# Altium integrated library library.IntLib: 35 symbols
Pins are listed as number, name and electrical type; pins without a type are passive.

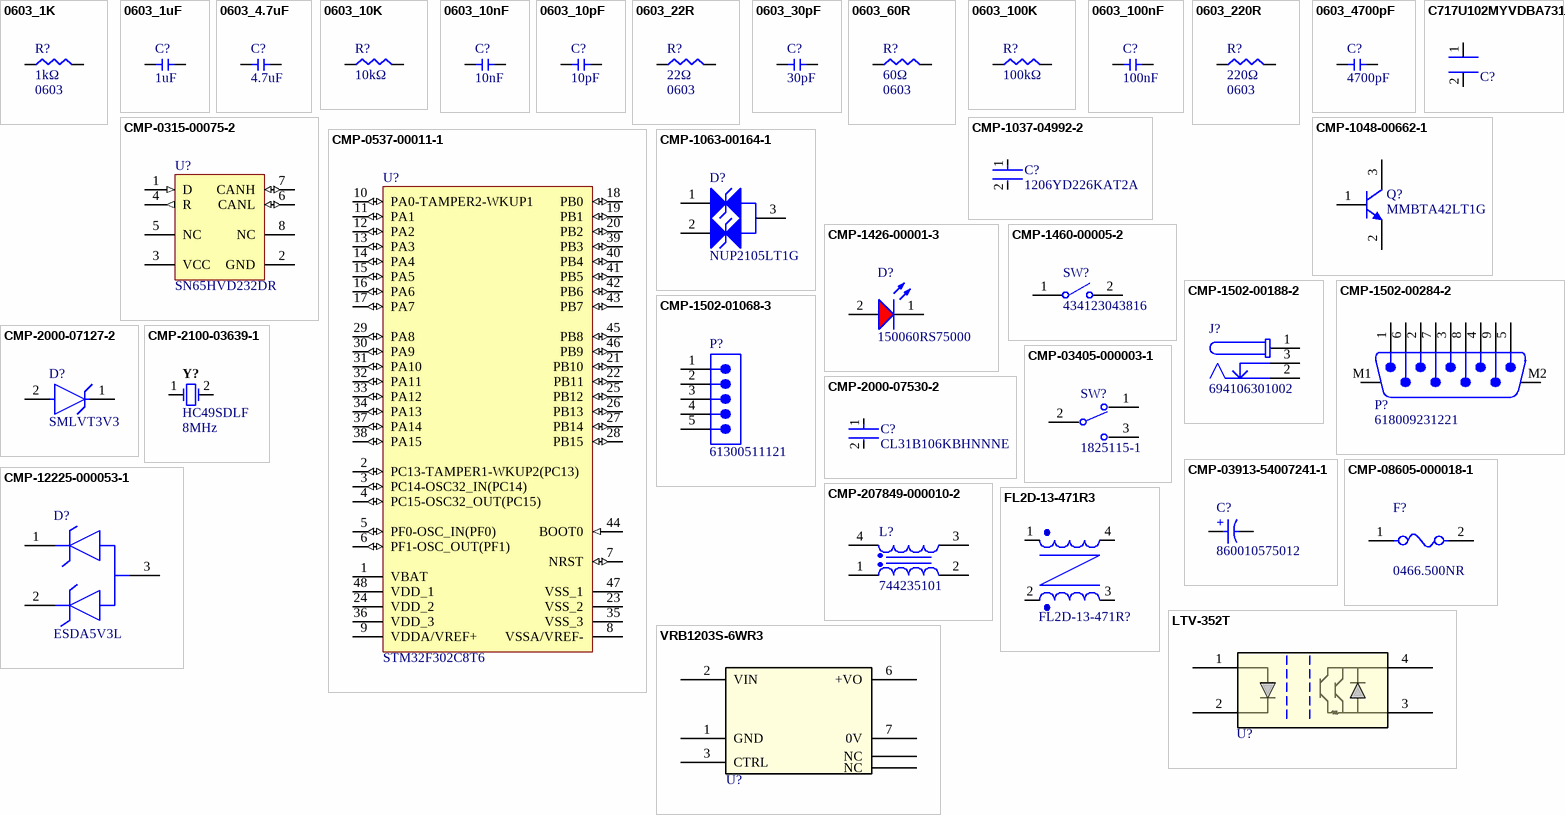
[diagram p0: symbols 0603_1K to VRB1203S-6WR3]

## 0603_1K
designator R?  value 1kΩ  Package: 0603  (hidden comment: 0603_1K)
Power: W
footprint 0603-smd
footprint 0603-smd
pins: 1, 2

## 0603_1uF
designator C?  value 1uF  (hidden comment: 0603_1uF)
Volt: V; Package: 0603
footprint 0603-smd
footprint 0603_cap
pins: 1, 2

## 0603_4.7uF
designator C?  value 4.7uF  (hidden comment: 0603_4.7uF)
Volt: 25V; Package: 0603
footprint 0603-smd
footprint 0603_cap
pins: 1, 2

## 0603_10K
designator R?  value 10kΩ  (hidden comment: 0603_10K)
Power: W; Package: 0603
footprint 0603-smd
footprint 0603-smd
pins: 1, 2

## 0603_10nF
designator C?  value 10nF  (hidden comment: 0603_10nF)
Volt: V; Package: 0603
footprint 0603-smd
footprint 0603_cap
pins: 1, 2

## 0603_10pF
designator C?  value 10pF  (hidden comment: 0603_10pF)
Volt: V; Package: 0603
footprint 0603-smd
footprint 0603_cap
pins: 1, 2

## 0603_22R
designator R?  value 22Ω  Package: 0603  (hidden comment: 0603_22R)
Power: W
footprint 0603-smd
footprint 0603-smd
pins: 1, 2

## 0603_30pF
designator C?  value 30pF  (hidden comment: 0603_30pF)
Volt: V; Package: 0603
footprint 0603-smd
footprint 0603_cap
pins: 1, 2

## 0603_60R
designator R?  value 60Ω  Package: 0603  (hidden comment: 0603_60R)
Power: W
footprint 0603-smd
footprint 0603-smd
pins: 1, 2

## 0603_100K
designator R?  value 100kΩ  (hidden comment: 0603_100K)
Power: W; Package: 0603
footprint 0603-smd
footprint 0603-smd
pins: 1, 2

## 0603_100nF
designator C?  value 100nF  (hidden comment: 0603_100nF)
Volt: V; Package: 0603
footprint 0603-smd
footprint 0603_cap
pins: 1, 2

## 0603_220R
designator R?  value 220Ω  Package: 0603  (hidden comment: 0603_220R)
Power: W
footprint 0603-smd
footprint 0603-smd
pins: 1, 2

## 0603_4700pF
designator C?  value 4700pF  (hidden comment: 0603_4700pF)
Volt: V; Package: 0603
footprint 0603-smd
footprint 0603_cap
pins: 1, 2

## C717U102MYVDBA7317
designator C?, comment 1nf 400V AC 7.5mm Lead  (value not drawn)
Suppression Cap, 1000Pf, Class X1/ Y2 Rohs Compliant: Yes |Kemet C717U102MYVDBA7317; Manufacturer: KEMET; Supplier 1: Mouser; Manufacturer Part Number: C717U102MYVDBA7317; RoHS: Yes; Category: Ceramic Capacitors; Stock 1: 1838; Pricing 1: 1=0,72, 10=0,387, 50=0,387, 100=0,25, 1000=0,223, 10000=0,18 (USD); RoHS Compliant: Yes; Supplier Part Number 1: 80-C717U102MYVDB7317; ComponentLink1Description: Datasheet; ComponentLink1URL: https://content.kemet.com/datasheets/KEM_C1103_KJY.pdf
footprint PCBComponent_1
pins: 1, 2

## CMP-0315-00075-2
designator U?, comment SN65HVD232DR
3.3 V Can Transceiver, 17 mA, -40 to 85 degC, 8-pin SOIC (D), Green (RoHS & no Sb/Br); Manufacturer: Texas Instruments; Supply Voltage(s)(V): 3.3; Receivers Per Package: 1; ICC(Max)(mA): 17; Rating: Catalog; Transient Pulse Protection(V): -25 to 25; Mounting Technology: Surface Mount; PartNumber: SN65HVD232DR; Code_JEDEC: MS-012AA; Eco-Plan: Green (RoHS & no Sb/Br); Isolated: No; SubFamily: CAN; Footprint: SN65HVD232; Drivers Per Package: 1; ComponentLink1URL: http://www.ti.com/general/docs/lit/getliterature.tsp?genericPartNumber=SN65HVD232&fileType=pdf; ComponentLink1Description: Datasheet; PackageDescription: 8-Pin Plastic Small Outline Integrated Circuit, 4.9 x 3.9 mm, Pitch 1.27 mm Pitch; PackageReference: D0008A; DatasheetVersion: SLOS346K; PackageVersion: revM, Jun-2011; Manufacturer Part Number: SN65HVD232DR
footprint D0008A_M (SOIC, 8-Leads, Body 5x4mm, Pitch 1.27mm, IPC Low Density)
footprint D0008A_L (SOIC, 8-Leads, Body 5x4mm, Pitch 1.27mm, IPC High Density)
footprint D0008A_N (SOIC, 8-Leads, Body 5x4mm, Pitch 1.27mm, IPC Medium Density)
pins: 1 D (in) "Driver input", 2 GND (power) "Ground", 3 VCC (power) "Supply voltage", 4 R (out) "Receiver output", 5 NC "No connection", 6 CANL (io) "Low bus output", 7 CANH (io) "High bus outpu", 8 NC "No connection"

## CMP-0537-00011-1
designator U?, comment STM32F302C8T6
ARM Cortex-M4 32-bit MCU, 64 KB Flash, 16 KB Internal RAM, 37 I/Os, 48-Pin LQFP, -40 to 85 degC, Tray; Manufacturer: STMicroelectronics; Operating Frequency(F) (Processor speed) (MHz): 72; Internal RAM Size (kB): 16; D/A Converter: 1; FLASH Size (Prog) (kB): 64; I/Os (High Current): 37; Supply Voltage(Vcc) min (V): 2; ComponentLink2Description: Datasheet; Package Reference: LQFP48; Package Description: 48-Pin Low Profile Quad Flat Package, Body 7 x 7 mm, Pitch 0.5 mm; Packing: Tray; ComponentLink1URL: http://www.st.com/; ComponentLink1Description: Manufacturer URL; DatasheetVersion: Rev. 5; Core: ARM Cortex-M4; Mounting Technology: Surface Mount; ComponentLink2URL: http://www.st.com/st-web-ui/static/active/en/resource/technical/document/datasheet/DM00093333.pdf; Manufacturer Part Number: STM32F302C8T6
footprint STM-LQFP48_M (QFP, 48-Leads, Body 7x7mm, Pitch 0.5mm, IPC Low Density)
footprint STM-LQFP48_N (QFP, 48-Leads, Body 7x7mm, Pitch 0.5mm, IPC Medium Density)
footprint STM-LQFP48_L (QFP, 48-Leads, Body 7x7mm, Pitch 0.5mm, IPC High Density)
pins: 1 VBAT (power) "Backup power supply", 2 PC13-TAMPER1-WKUP2(PC13) (io) "PC13-TAMPER1-WKUP2(PC13)/TIM1_CH1N/WKUP2,RTC_TAMP1,RTC_TS,RTC_OUT", 3 PC14-OSC32_IN(PC14) (io) "PC14/OSC32_IN", 4 PC15-OSC32_OUT(PC15) (io) "PC15/OSC32_OUT", 5 PF0-OSC_IN(PF0) (io) "PF0/I2C2_SDA,SPI2_NSS/I2S2_WS,TIM1_CH3N/OSC_IN", 6 PF1-OSC_OUT(PF1) (io) "PF1/I2C2_SCL,SPI2_SCK/I2S2_CK/OSC_OUT", 7 NRST (io) "Device reset input/internal reset output (active low)", 8 VSSA/VREF- (power) "Analog ground/Negative reference voltage", 9 VDDA/VREF+ (power) "Analog power supply/Positive reference voltage", 10 PA0-TAMPER2-WKUP1 (io) "PA0-TAMPER2-WKUP1/TIM2_CH1/TIM2_ETR,TSC_G1_IO1,USART2_CTS,EVENTOUT/ADC1_IN1,RTC_TAMP2,WKUP1", 11 PA1 (io) "PA1/RTC_REFIN,TIM2_CH2,TSC_G1_IO2,USART2_RTS_DE,TIM15_CH1N,EVENTOUT/ADC1_IN2", 12 PA2 (io) "PA2/TIM2_CH3,TSC_G1_IO3,USART2_TX,COMP2_OUT,TIM15_CH1,EVENTOUT/ADC1_IN3,COMP2_INM", 13 PA3 (io) "PA3/TIM2_CH4,TSC_G1_IO4,USART2_RX,TIM15_CH2,EVENTOUT/ADC1_IN4", 14 PA4 (io) "PA4/TSC_G2_IO1,SPI3_NSS/I2S3_WS,USART2_CK,EVENTOUT/ADC1_IN5,DAC1_OUT1,COMP2_INM,COMP4_INM,COMP6_INM", 15 PA5 (io) "PA5/TIM2_CH1/TIM2_ETR,TSC_G2_IO2,EVENTOUT/OPAMP2_VINM", 16 PA6 (io) "PA6/TIM16_CH1,TSC_G2_IO3,TIM1_BKIN,EVENTOUT/ADC1_IN10,OPAMP2_VOUT", 17 PA7 (io) "PA7/TIM17_CH1,TSC_G2_IO4,TIM1_CH1N,EVENTOUT/ADC1_IN15,COMP2_INP,OPAMP2_VINP", 18 PB0 (io) "PB0/TSC_G3_IO2,TIM1_CH2N,EVENTOUT/ADC1_IN11,COMP4_INP,OPAMP2_VINP", 19 PB1 (io) "PB1/TSC_G3_IO3,TIM1_CH3N,COMP4_OUT,EVENTOUT/ADC1_IN12", 20 PB2 (io) "PB2/TSC_G3_IO4,EVENTOUT/COMP4_INM", 21 PB10 (io) "PB10/TIM2_CH3,TSC_SYNC,USART3_TX,EVENTOUT", 22 PB11 (io) "PB11/TIM2_CH4,TSC_G6_IO1,USART3_RX,EVENTOUT/ADC1_IN14,COMP6_INP", 23 VSS_2 (power) "Digital ground", 24 VDD_2 (power) "Digital power supply", 25 PB12 (io) "PB12/TSC_G6_IO2,I2C2_SMBAL,SPI2_NSS/I2S2_WS,TIM1_BKIN,USART3_CK,EVENTOUT", 26 PB13 (io) "PB13/TSC_G6_IO3,SPI2_SCK/I2S2_CK,TIM1_CH1N,USART3_CTS,EVENTOUT/ADC1_IN13", 27 PB14 (io) "PB14/TIM15_CH1,TSC_G6_IO4,SPI2_MISO/I2S2EXT_SD,TIM1_CH2N,USART3_RTS_DE,EVENTOUT/OPAMP2_VINP", 28 PB15 (io) "PB15/RTC_REFIN,TIM15_CH2,TIM15_CH1N,TIM1_CH3N,SPI2_MOSI/I2S2_SD,EVENTOUT/COMP6_INM", 29 PA8 (io) "PA8/MCO,I2C3_SCL,I2C2_SMBAL,I2S2_MCK,TIM1_CH1,USART1_CK,EVENTOUT", 30 PA9 (io) "PA9/I2C3_SMBAL,TSC_G4_IO1,I2C2_SCL,I2S3_MCK,TIM1_CH2,USART1_TX,TIM15_BKIN,TIM2_CH3,EVENTOUT", 31 PA10 (io) "PA10/TIM17_BKIN,TSC_G4_IO2,I2C2_SDA,SPI2_MISO/I2S2EXT_SD,TIM1_CH3,USART1_RX,COMP6_OUT,TIM2_CH4,EVENTOUT", 32 PA11 (io) "PA11/SPI2_MOSI/I2S2_SD,TIM1_CH1N,USART1_CTS,TIM1_CH4,TIM1_BKIN2,EVENTOUT", 33 PA12 (io) "PA12/TIM16_CH1,I2SCKIN,TIM1_CH2N,USART1_RTS_DE,COMP2_OUT,TIM1_ETR,EVENTOUT", 34 PA13 (io) "PA13/SWDIO,TIM16_CH1N,TSC_G4_IO3,IR-OUT,USART3_CTS,EVENTOUT", 35 VSS_3 (power) "Digital ground", 36 VDD_3 (power) "Digital power supply", 37 PA14 (io) "PA14/SWCLK-JTCK,TSC_G4_IO4,I2C1_SDA,TIM1_BKIN,USART2_TX,EVENTOUT", 38 PA15 (io) "PA15/JTDI,TIM2_CH1/TIM2_ETR,TSC_SYNC,I2C1_SCL,SPI3_NSS/I2S3_WS,USART2_RX,TIM1_BKIN,EVENTOUT", 39 PB3 (io) "PB3/JTDO-TRACESWO,TIM2_CH2,TSC_G5_IO1,SPI3_SCK/I2S3_CK,USART2_TX,EVENTOUT", 40 PB4 (io) "PB4/JTRST,TIM16_CH1,TSC_G5_IO2,SPI3_MISO/I2S3EXT_SD,USART2_RX,TIM17_BKIN,EVENTOUT", 41 PB5 (io) "PB5/TIM16_BKIN,I2C1_SMBAI,SPI3_MOSI/I2S3_SD,USART2_CK,I2C3_SDA,TIM17_CH1,EVENTOUT", 42 PB6 (io) "PB6/TIM16_CH1N,TSC_G5_IO3,I2C1_SCL,USART1_TX,EVENTOUT", 43 PB7 (io) "PB7/TIM17_CH1N,TSC_G5_IO4,I2C1_SDA,USART1_RX,EVENTOUT", 44 BOOT0 (in) "Boot memory selection", 45 PB8 (io) "PB8/TIM16_CH1,TSC_SYNC,I2C1_SCL,USART3_RX,TIM1_BKIN,EVENTOUT", 46 PB9 (io) "PB9/TIM17_CH1,I2C1_SDA,IR-OUT,USART3_TX,COMP2_OUT,EVENTOUT", 47 VSS_1 (power) "Digital ground", 48 VDD_1 (power) "Digital power supply"

## CMP-1037-04992-2
designator C?, comment 1206YD226KAT2A
General Purpose Ceramic Capacitor, 1206, 22uF, 10%, X5R, 15%, 16V; Manufacturer: Kyocera AVX; REACH SVHC: No SVHC; Height: 0.07mm; Lead Free: Lead Free; Voltage Rating: 16V; Width: 0.063inch; Voltage Rating (DC): 16V; Mount: Surface Mount; Capacitance: 22uF; Case Code (Imperial): 1206; Package Quantity: 1; Radiation Hardening: No; Packaging: Tape and Reel; Number of Pins: 2; Construction: Flat; Max Operating Temperature: 85°C; Depth: 1.6mm; Case Code (Metric): 3216; Thickness: 0.07inch; Min Operating Temperature: -55°C; Contact Plating: Tin; Dielectric: X5R; Case/Package: 1206; Series: -; Termination: SMD/SMT; Length: 3.2mm; RoHS Compliant: Yes; Tolerance: 10%; Manufacturer Part Number: 1206YD226KAT2A
footprint FP-1206-L_3_2_0_2-W_1_6_0-IPC_C
footprint FP-1206-L_3_2_0_2-W_1_6_0-IPC_A
footprint FP-1206-L_3_2_0_2-W_1_6_0-IPC_B
footprint FP-1206-L_3_2_0_2-W_1_6_0-MFG
pins: 1, 2

## CMP-1048-00662-1
designator Q?, comment MMBTA42LT1G
High Voltage Transistor, NPN Silicon, 3-Pin SOT-23, Pb-Free, Tape and Reel; Manufacturer: On Semiconductor; fT Min (MHz): 50; IC Continuous (A): 0.5; ComponentLink1URL: http://www.onsemi.com/; ComponentLink3URL: http://www.onsemi.cn/pub_link/Collateral/318-08.PDF; RoHS: TRUE; ComponentLink2Description: Datasheet; PartNumber: MMBTA42LT1G; Polarity: NPN; DatasheetVersion: Rev. 12; PackageReference: SOT-23-3-318-08; PackageDescription: 3-Pin Small Outline Transistor, Body 2.92 x 1.3 mm, Pitch 0.95 mm; ComponentLink3Description: Package Specification; ComponentLink1Description: Manufacturer URL; Packing: Tape and Reel; PackageVersion: Rev. AP, 11/2009; Mounting Technology: Surface Mount; ComponentLink2URL: http://www.onsemi.cn/pub_link/Collateral/MMBTA42LT1-D.PDF; Manufacturer: ON Semiconductor; Manufacturer Part Number: MMBTA42LT1G
footprint ONSC-SOT-23-3-318-08_V (SOT23, 3-Leads, Body 2.92x1.3mm, Pitch 0.95mm)
pins: 1 B, 2 E, 3 C

## CMP-1063-00164-1
designator D?, comment NUP2105LT1G
Dual Line CAN Bus Protector, 3-Pin SOT-23, Pb-Free, Tape and Reel; Manufacturer: On Semiconductor; IR Max (uA): 0.1; Number of Lines: 2; Direction: Bidirectional; C Max (pF): 30; PPK Max (W): 350; V(BR) Min (V): 26.2; ComponentLink3URL: http://www.onsemi.cn/pub_link/Collateral/318-08.PDF; Mounting Technology: Surface Mount; ComponentLink2Description: Datasheet; PartNumber: NUP2105LT1G; ComponentLink1URL: http://www.onsemi.com/; PackageVersion: Rev. AP, 11/2009; DatasheetVersion: Rev. 5; RoHS: Pb-Free; PackageReference: SOT-23-3-318-08; ComponentLink2URL: http://www.onsemi.cn/pub_link/Collateral/NUP2105L-D.PDF; ComponentLink1Description: Manufacturer URL; PackageDescription: 3-Pin Small Outline Transistor, Body 2.92 x 1.3 mm, Pitch 0.95 mm; Packing: Tape and Reel; ComponentLink3Description: Package Specification; Manufacturer: ON Semiconductor; Manufacturer Part Number: NUP2105LT1G
footprint ONSC-SOT-23-3-318-08_V (SOT23, 3-Leads, Body 2.92x1.3mm, Pitch 0.95mm)
pins: 1 K, 2 K, 3 K

## CMP-1426-00001-3
designator D?, comment 150060RS75000
NexarPartId: 29717776; Manufacturer: Wurth Electronics; Color: Red; Power Dissipation: 72mW; Max Reverse Voltage (DC): 5V; Peak Wavelength: 630nm; Viewing Angle: 140°; Forward Voltage: 2V; Luminous Intensity: 250mcd; Forward Current: 100mA; Dominant Wavelength: 625nm; Lens Style: Clear, Rectangular; Max Junction Temperature (Tj): 95°C; Test Current: 20mA; Mount: Surface Mount; Packaging: Tape and Reel; Case Code (Metric): 1608; Max Operating Temperature: 85°C; Case Code (Imperial): 0603; REACH SVHC: Unknown; Width: 800µm; Length: 1.6mm; Reverse Voltage: 5V; Height: 700µm; Case/Package: 0603; RoHS: Compliant; Wavelength: 625nm; Min Operating Temperature: -40°C; Manufacturer Part Number: 150060RS75000
footprint WL-SMCW_0603_150060xx75000 (WL-SMCW SMT Mono-Color Chip LED Waterclear)
pins: 1 K, 2 A

## CMP-1460-00005-2
designator SW?, comment 434123043816
NexarPartId: 22866049; Manufacturer: Wurth Electronics; Current Rating: 50mA; Voltage Rating: 12V; Insulation Resistance: 100MΩ; Packaging: Tape and Reel; Min Operating Temperature: -40°C; Contact Current Rating: 50mA; RoHS: Compliant; Height: 4.3mm; Contact Plating: Silver; Color: Black; Width: 6mm; Contact Resistance: 100mΩ; Max Operating Temperature: 85°C; Manufacturer Part Number: 434123043816
footprint WS-TASV_L6W3.5H4.3_4341x30438x6 (Switch Tactile Spst-no 0.05A 12V)
pins: 1, 2

## CMP-1502-00188-2
designator J?, comment 694106301002
NexarPartId: 52676100; Manufacturer: Wurth Electronics; Voltage Rating (DC): 20V; Gender: Male; Voltage Rating: 24V; Connector Type: Power; Insulation Resistance: 100MΩ; Current Rating: 5A; Shielding: Unshielded; Number of Contacts: 3; Color: Black; Housing Material: Polyamide; Contact Gender: Female; REACH SVHC: Unknown; Termination: Through Hole; Height: 11mm; RoHS: Compliant; Mount: Through Hole; Flammability Rating: UL94 V-0; Packaging: Bulk; Min Operating Temperature: -40°C; Contact Plating: Tin; Max Operating Temperature: 85°C; Operating Supply Voltage: 24V; Contact Material: Gold, Tin; Manufacturer Part Number: 694106301002
footprint 694106301002 (DC Power Jack Connector WR-DC, Male, Right Angled, THT, 5 A, 24 V)
pins: 1, 2, 3

## CMP-1502-00284-2
designator P?, comment 618009231221
NexarPartId: 22865742; Manufacturer: Wurth Electronics; Pitch: 2.77mm; Number of Contacts: 9; Operating Supply Voltage: 125V; Insulation Resistance: 5GΩ; Gender: Male; Contact Resistance: 30mΩ; Current Rating: 3A; Mount: Through Hole; Housing Material: Steel; Contact Plating: Gold; Width: 12.5mm; Insulation Material: PBT; RoHS: Compliant; Depth: 18.5mm; Contact Material: Gold; Max Operating Temperature: 105°C; Min Operating Temperature: -55°C; Termination: SMD/SMT; Height: 12.7mm; Voltage Rating: 125V; Length: 30.8mm; Orientation: Right Angle; Number of Rows: 2; Number of Pins: 9; REACH SVHC: Unknown; Manufacturer Part Number: 618009231221
footprint 618009231221 (9 Way Right Angle Through Hole PCB D-sub Connector Plug, 2.77mm, 2.84mm Pitch)
pins: 1, 2, 3, 4, 5, 6, 7, 8, 9, M1, M2

## CMP-1502-01068-3
designator P?, comment 61300511121
NexarPartId: 32855526; Manufacturer: Wurth Electronics; Connector Type: Male Pin; Gender: Male; Contact Resistance: 20mΩ; Pitch: 2.54mm; Operating Supply Voltage: 250V; Current Rating: 3A; Number of Contacts: 5; Lead Free: Lead Free; Color: Black; Packaging: Bulk; Lead Pitch: 2.54mm; Contact Material: Copper; Min Operating Temperature: -40°C; Contact Mating Length: 5.9944mm; Voltage Rating: 250V; Number of Pins: 5; Number of Positions: 5; Height: 8.89mm; Orientation: Vertical; REACH SVHC: Unknown; RoHS: Compliant; Contact Plating: Gold; Max Operating Temperature: 105°C; Mount: Through Hole; Number of Rows: 1; Termination: Solder; Manufacturer Part Number: 61300511121
footprint 61300511121 (THT Vertical Pin Header WR-PHD, Pitch 2.54 mm, Single Row, 5 pins)
pins: 1, 2, 3, 4, 5

## CMP-2000-07127-2
designator D?, comment SMLVT3V3
TVS DIODE 3.3V 10.3V SMB; Manufacturer: STMicroelectronics; Standoff Height: 0.05mm; Max Junction Temp: +175°C; Capacitance: 5200pF; Breakdown Voltage: 4.1V; Peak Pulse Power: 600W; Clamping Voltage: 7.3V; Direction: Unidirectional; Number Of Channels: 1; Peak Pulse Current: 50A; Value: 5200pF; ComponentLink2Description: Datasheet; Digikey Description: TVS DIODE 3.3V 10.3V SMB; Automotive: No; Temperature Range Low: -55°C; Device Class L2: TVS Diodes; RoHS: TRUE; ComponentLink2URL: https://www.st.com/resource/en/datasheet/smlvt3v3.pdf; Temperature: -55°C to +175°C; Device Class L3: unset; Package: SMB; Lead Free: Yes; Mouser Description: TVS Diodes - Transient Voltage Suppressors 600W 3.3V Unidirect; Height: 2.65mm; Octopart: https://octopart.com/smlvt3v3-stmicroelectronics-347049; Temperature Range High: +175°C; Category: Diode; Manufacturer Part Number: SMLVT3V3; Device Class L1: Circuit Protection
footprint FP-SMB-MFG
pins: 1 K, 2 A

## CMP-2000-07530-2
designator C?, comment CL31B106KBHNNNE
CAP CER 10UF 50V X7R 1206; Manufacturer: Samsung; Tolerance: 10%; Material: Ceramic; Temperature Coefficient: 15%; Temperature Characteristic: X7R; Digikey Description: CAP CER 10UF 50V X7R 1206; Device Class L1: Passive Components; Value: 10uF; Lead Free: Yes; Device Class L3: Ceramic Capacitors; Octopart: https://octopart.com/cl31b106kbhnnne-samsung-30507377; ComponentLink2URL: http://www.samsungsem.com/global/front/downloadcms.do?path=%2F%2Fglobal%2F%2Fsupport%2F%2Fproduct-search%2F%2Fmlcc%2F%2F__icsFiles%2F%2Fafieldfile%2F%2F2019%2F%2F06%2F%2F18&fileName=CL31B106KBHNNNE-19.pdf; Voltage Rating: 50V; Temperature Range Low: -55°C; RoHS: TRUE; Temperature: -55°C to +125°C; Category: Cap; ComponentLink2Description: Datasheet; Manufacturer Part Number: CL31B106KBHNNNE; Automotive: No; Device Class L2: Capacitors; Capacitance: 10uF; Height: 1.8mm; Temperature Range High: +125°C; Package: CL31B106KBHNNNE
footprint FP-CL31B106KBHNNNE-MFG
footprint FP-CL31B106KBHNNNE-IPC_C
footprint FP-CL31B106KBHNNNE-IPC_B
footprint FP-CL31B106KBHNNNE-IPC_A
pins: 1, 2

## CMP-2100-03639-1
designator Y?, comment Package Reference: HC49SDLF  Frequency: 8MHz  (hidden comment: FOXSDLF/080-20)
Resistance Weld Crystal, 8 MHz, +/- 30 ppm, -20 to 70 degC, 2-Pin SMD, RoHS, Tape and Reel; Manufacturer: FOX Electronics; Series Resistance: 80Ohm; Load Capacitance: 20pF; Tolerance: 50ppm; Frequency Tolerance: 30ppm; Datasheet URL: http://www.foxonline.com/pdfs/hc49sdlf.pdf; Height: 4.5mm; Mount: SurfaceMount; Packaging: TapeandReel; Length: 11.7mm; Termination: SMD/SMT; Number of Pins: 2; Depth: 5mm; Min Operating Temperature: -20degC; Package Quantity: 1000; RoHSCompliant: True; Lead Free: LeadFree; Width: 5mm; Case/Package: SMD/SMT; Manufacturer URL: http://www.foxonline.com/; Max Operating Temperature: 70degC; REACH SVHC: NoSVHC; Datasheet Version: 42064.0; Package Description: 2-Pin Surface Mount Device, Body 5 x 11.7 mm; Frequency Stability: 50ppm; ESR (Equivalent Series Resistance): 80Ohm; Radiation Hardening: No; Manufacturer: Fox Electronics; Manufacturer Part Number: FOXSDLF/080-20
footprint FOX-HC49SDLF_V (SMD, 2-Leads, Body 5x11.7mm)
pins: 1, 2

## CMP-03405-000003-1
designator SW?, comment 1825115-1
SWITCH SLIDE SPDT 250MA 125V; Manufacturer: TE Connectivity; Operating Force: 250gf; Electromechanical Life: 6000Cycles; Contact Resistance: 30mΩ; Voltage Rating Dc: 12V; Temperature Range High: +85°C; Manufacturer Part Number: 1825115-1; Temperature: -10°C to +85°C; Package: 1825115-1; Voltage Rating Ac: 125V; Category: Switch; Digikey Description: SWITCH SLIDE SPDT 250MA 125V; Throw Configuration: SPDT; RoHS: TRUE; Mount: Through Hole; Device Class L2: Switches; ComponentLink2Description: Datasheet; Automotive: No; ComponentLink2URL: https://www.te.com/usa-en/product-1825115-1.html?te_bu=Cor&te_type=other&te_campaign=oct_glo_cor-oct-global-oth-prtnr-fy19-oct-octo-buy-bom_sma-298_2&elqCampaignId=35216; Contact Current Rating: 250mA; Temperature Range Low: -10°C; Device Class L3: Slide Switches; Device Class L1: Electromechanical; Octopart: https://octopart.com/sls121pc04-te+connectivity-39426454; Lead Free: Yes
footprint FP-1825115-1-MFG
pins: 1, 2, 3

## CMP-03913-54007241-1
designator C?, comment 860010575012
860010575012 WCAP-ATG8 Aluminum Electrolytic Capacitors; NexarPartId: 54007241; Manufacturer: Wurth Electronics; Ripple Current: 528mA; Voltage Rating: 35V; Capacitance: 330µF; Pitch: 5mm; Tolerance: 20%; Leakage Current: 115.5µA; Life (Hours): 2000hours; Case/Package: Radial; Max Operating Temperature: 85°C; REACH SVHC: Unknown; Min Operating Temperature: -40°C; Lead Pitch: 5mm; RoHS: Non-Compliant; Voltage Rating (DC): 35V; Diameter: 10mm; Height: 12.5mm; Length: 12.5mm; Manufacturer Part Number: 860010575012
footprint WCAP-ATG8_D10H12.5 (WCAP-ATG8 Aluminum Electrolytic Capacitors)
pins: 1 P, 2 N
text: +

## CMP-08605-000018-1
designator F?, comment 0466.500NR
FUSE BOARD MOUNT 500MA 63VAC/VDC; Manufacturer: Littelfuse Inc; Manufacturer: Littelfuse; Fuse Voltage Drop: 158.47mV; Voltage Rating: 63V; Fuse Interrupt Dc Current: 50A; Fuse Blow Speed: Fast; Fuse I2T: 0.006A2Sec; Resistance: 0.248Ω; Value: 0.248Ω; Fuse Current: 0.5A; Manufacturer Part Number: 0466.500NR; Digikey Description: FUSE BOARD MOUNT 500MA 63VAC/VDC; Device Class L2: Fuses; Max Fuse Dc Voltage: 63V; Mouser Description: SMD Fuse 0.5 A Fast-Blow, 466 1206; Octopart: https://octopart.com/0466.500nr-littelfuse-566004; Temperature Range High: +90°C; Lead Free: Yes; Fuse Interrupt Ac Current: 50A; RoHS: TRUE; Device Class L1: Circuit Protection; Height: 0.66mm; Automotive: No; Category: Fuse; Temperature: -55°C to +90°C; Package: 0466; Device Class L3: unset; ComponentLink2URL: https://www.littelfuse.com/~/media/electronics/datasheets/fuses/littelfuse_fuse_466_datasheet.pdf.pdf; Max Fuse Ac Voltage: 63V; ComponentLink2Description: Datasheet; Temperature Range Low: -55°C
footprint FP-0466-MFG
pins: 1, 2

## CMP-12225-000053-1
designator D?, comment ESDA5V3L
TVS DIODE 3V SOT23-3; Manufacturer: STMicroelectronics; Capacitance: 220pF; Peak Pulse Power: 300W; Value: 220pF; Max Junction Temp: +150°C; Standoff Height: 0mm; Peak Pulse Current: 25A; Direction: Unidirectional; Number Of Channels: 2; Breakdown Voltage: 5.3V; Mouser Description: ESDA Series 2 Channel 5.3 V 220 pF SMT Uni-Directional Transil? Array - SOT-23; Device Class L2: TVS Diodes; Ipc Land Pattern Name: SOT95P255X115-3; Manufacturer Part Number: ESDA5V3L; Temperature Range Low: -40°C; Device Class L3: unset; Height: 1.4mm; Lead Free: Yes; ComponentLink2URL: https://www.st.com/content/ccc/resource/technical/document/datasheet/eb/9f/a7/ac/7b/b6/46/7f/CD00002057.pdf/files/CD00002057.pdf/jcr:content/translations/en.CD00002057.pdf; Category: Diode; Temperature: -40°C to +150°C; Automotive: No; Package: SOT23-3L-0053390; Digikey Description: TVS DIODE 3V SOT23-3; Reverse Standoff Voltage: 3V; Octopart: https://octopart.com/esda5v3l-stmicroelectronics-347708; Device Class L1: Circuit Protection; Temperature Range High: +150°C; RoHS: TRUE; ComponentLink2Description: Datasheet
footprint FP-SOT23-3L-0053390-MFG
footprint FP-SOT23-3L-0053390-IPC_C
footprint FP-SOT23-3L-0053390-IPC_B
footprint FP-SOT23-3L-0053390-IPC_A
pins: 1 1 CATHODE, 2 2 CATHODE, 3 COMMON ANODE

## CMP-207849-000010-2
designator L?, comment 744235101
CMC 100UH 150MA 2LN 8 KOHM SMD; NexarPartId: 61645269; Manufacturer: Wurth Electronics; Inductance: 100µH; Number of Lines: 2; DC Resistance (DCR): 2Ω; Voltage Rating (DC): 60V; Test Frequency: 100kHz; Max Current Rating: 150mA; RoHS: Compliant; Packaging: Tape & Reel (TR); Ambient Temperature Range Low: -40°C; Number of Pins: 4; Ambient Temperature Range High: 85°C; Min Operating Temperature: -40°C; Height: 2.8mm; RMS Current (Irms): 150mA; Width: 3.2mm; Current Rating: 150mA; Mount: Surface Mount; Max Operating Temperature: 125°C; Composition: Wirewound; Length: 4.5mm; Series Resistance: 2Ω; Voltage Rating: 60V; Manufacturer Part Number: 744235101
footprint WE-CNSW_1812 (WE-CNSW Common mode filter; -40; +125 °C; 150 mA; 2O; 4.55 x 3.22 x 2.6mm)
pins: 1, 2, 3, 4

## FL2D-13-471R3
designator FL2D-13-471R?, comment EMC Filte  (value not drawn)
ComponentLink1Description: Datasheet; ComponentLink1URL: https://www.mornsun-power.com/html/pdf/FL2D-13-471R3.html
footprint FL2D-13-471R3
pins: 1, 2, 3, 4

## LTV-352T
designator U?  (value not drawn)
LTV Series Single Channel 300V 3750 Vrms Transistor Output Optocoupler SMT DIP-4; Mfr_Name: LITE-ON; Manufacturer: Vishay Lite-On; RefDes: RefDes; Type: Type; Supplier 1: Rs; Manufacturer Part Number: LTV-352T; RoHS: Yes; Category: Optocouplers; Stock 1: 22730; Pricing 1: 25=0,29, 50=0,278, 250=0,228, 500=0,2 (GBP); ComponentLink1URL: https://datasheet.ciiva.com/11772/0900766b80de6aef-11772096.pdf?src-supplier=Rs; ComponentLink1Description: https://datasheet.ciiva.com/11772/0900766b80de6aef-11772096.pdf?src-supplier=Rs; ComponentLink2URL: https://datasheet.ciiva.com/2086/ltv-352t-2086258.pdf?src-supplier=Digikey; ComponentLink2Description: https://datasheet.ciiva.com/2086/ltv-352t-2086258.pdf?src-supplier=Digikey; ComponentLink3URL: https://datasheet.ciiva.com/19471/1260710-19471302.pdf?src-supplier=Jameco; ComponentLink3Description: https://datasheet.ciiva.com/19471/1260710-19471302.pdf?src-supplier=Jameco; ComponentLink4URL: https://datasheet.ciiva.com/15118/getdatasheetpartid-145582-15118811.pdf?src-supplier=Verical; ComponentLink4Description: https://datasheet.ciiva.com/15118/getdatasheetpartid-145582-15118811.pdf?src-supplier=Verical; ComponentLink5URL: https://datasheet.ciiva.com/2086/s-110-ltv-352t20140520-2086259.pdf?src-supplier=Digikey; ComponentLink5Description: https://datasheet.ciiva.com/2086/s-110-ltv-352t20140520-2086259.pdf?src-supplier=Digikey; ComponentLink6URL: https://datasheet.ciiva.com/2086/s-110-ltv-352t20140520-2086260.pdf?src-supplier=Digikey; ComponentLink6Description: https://datasheet.ciiva.com/2086/s-110-ltv-352t20140520-2086260.pdf?src-supplier=Digikey; Supplier Part Number 1: 6912063P
footprint IC4_LTV-352T_LTO-M
pins: 1, 2, 3, 4

## VRB1203S-6WR3
designator U?, comment DC DC CONVERTER 3.3V 6W  (value not drawn)
Isolated Module DC DC Converter 1 Output 3.3V 1.35A 9V - 18V Input; Mfr_Name: MORNSUN; Type: DC DC Converters; RefDes: RefDes; ComponentLink1Description: Datasheet; ComponentLink1URL: https://www.mornsun-power.com/html/pdf/VRB1203S-6WR3.html
footprint VRB_S-6WR3_MNS
pins: 1 GND (power), 2 VIN, 3 CTRL, 5 NC, 6 +VO (power), 7 0V, 8 NC